# Altium footprint library 1101M1S3CQE2.PcbLib: 1 footprints
Each footprint in its own frame and in the unit in brackets; x right, y up, seen from the top. Pads: shape width x height; smd on the part's side, far side on the other; paste and mask are expansions set on the pad; w line width, h text height; cw(c..) or ccw(c..) is an arc to the next point about the centre after c.
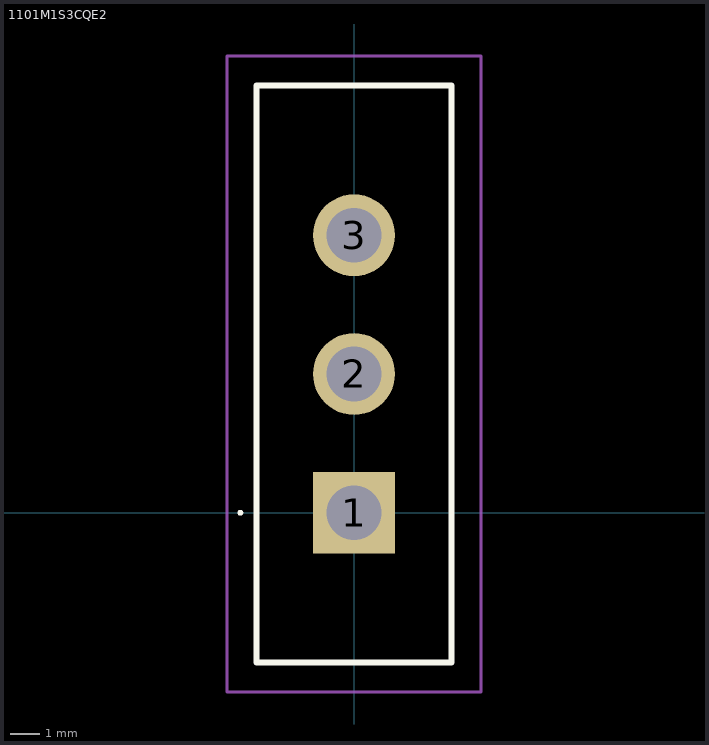
[diagram p0: the footprint, top view; thin cyan lines are the x and y axes]

## 1101M1S3CQE2 [mm]
pads (3):
  rect 2.775x2.775 hole 1.85: 1(0,0)
  round 2.775 hole 1.85: 2(0,4.7) 3(0,9.4)
Top Overlay:
  lines w0.1: -3.9,0 -3.9,0 ; -3.9,0 ccw(c-3.85,0) -3.8,0 ; -3.9,0 cw(c-3.85,0) -3.8,0 ; -3.8,0 -3.8,0
  lines w0.2: -3.3,-5.08 3.3,-5.08 3.3,14.48 -3.3,14.48 -3.3,-5.08
Mechanical 15:
  lines w0.1: -3.3,-5.08 3.3,-5.08 3.3,14.48 -3.3,14.48 -3.3,-5.08
Mechanical 20:
  lines w0.1: -4.3,-6.08 4.3,-6.08 4.3,15.48 -4.3,15.48 -4.3,-6.08